# EAGLE library part AD5122 (library common)
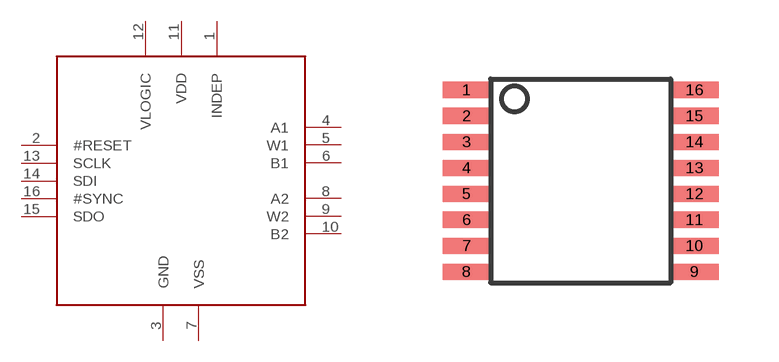
[diagram p42: symbol with the pads of TSSOP-RU-16; footprint TSSOP-RU-16]

Designator prefix -

## AD5122BRUZ10  [TSSOP-RU-16]
1  INDEP
2  #RESET
3  GND
4  A1
5  W1
6  B1
7  VSS
8  A2
9  W2
10  B2
11  VDD
12  VLOGIC
13  SCLK
14  SDI
15  SDO
16  #SYNC

## Footprint TSSOP-RU-16 (pad centres in mm)
smd 1.2 x 0.4: 1 -2.85,2.275; 2 -2.85,1.625; 3 -2.85,0.975; 4 -2.85,0.325; 5 -2.85,-0.325; 6 -2.85,-0.975; 7 -2.85,-1.625; 8 -2.85,-2.275; 9 2.85,-2.275; 10 2.85,-1.625; 11 2.85,-0.975; 12 2.85,-0.325; 13 2.85,0.325; 14 2.85,0.975; 15 2.85,1.625; 16 2.85,2.275